# Altium footprint library PcbLibResistors.PcbLib: 11 footprints
Each footprint in its own frame and in the unit in brackets; x right, y up, seen from the top. Pads: shape width x height; smd on the part's side, far side on the other; paste and mask are expansions set on the pad; w line width, h text height; cw(c..) or ccw(c..) is an arc to the next point about the centre after c.
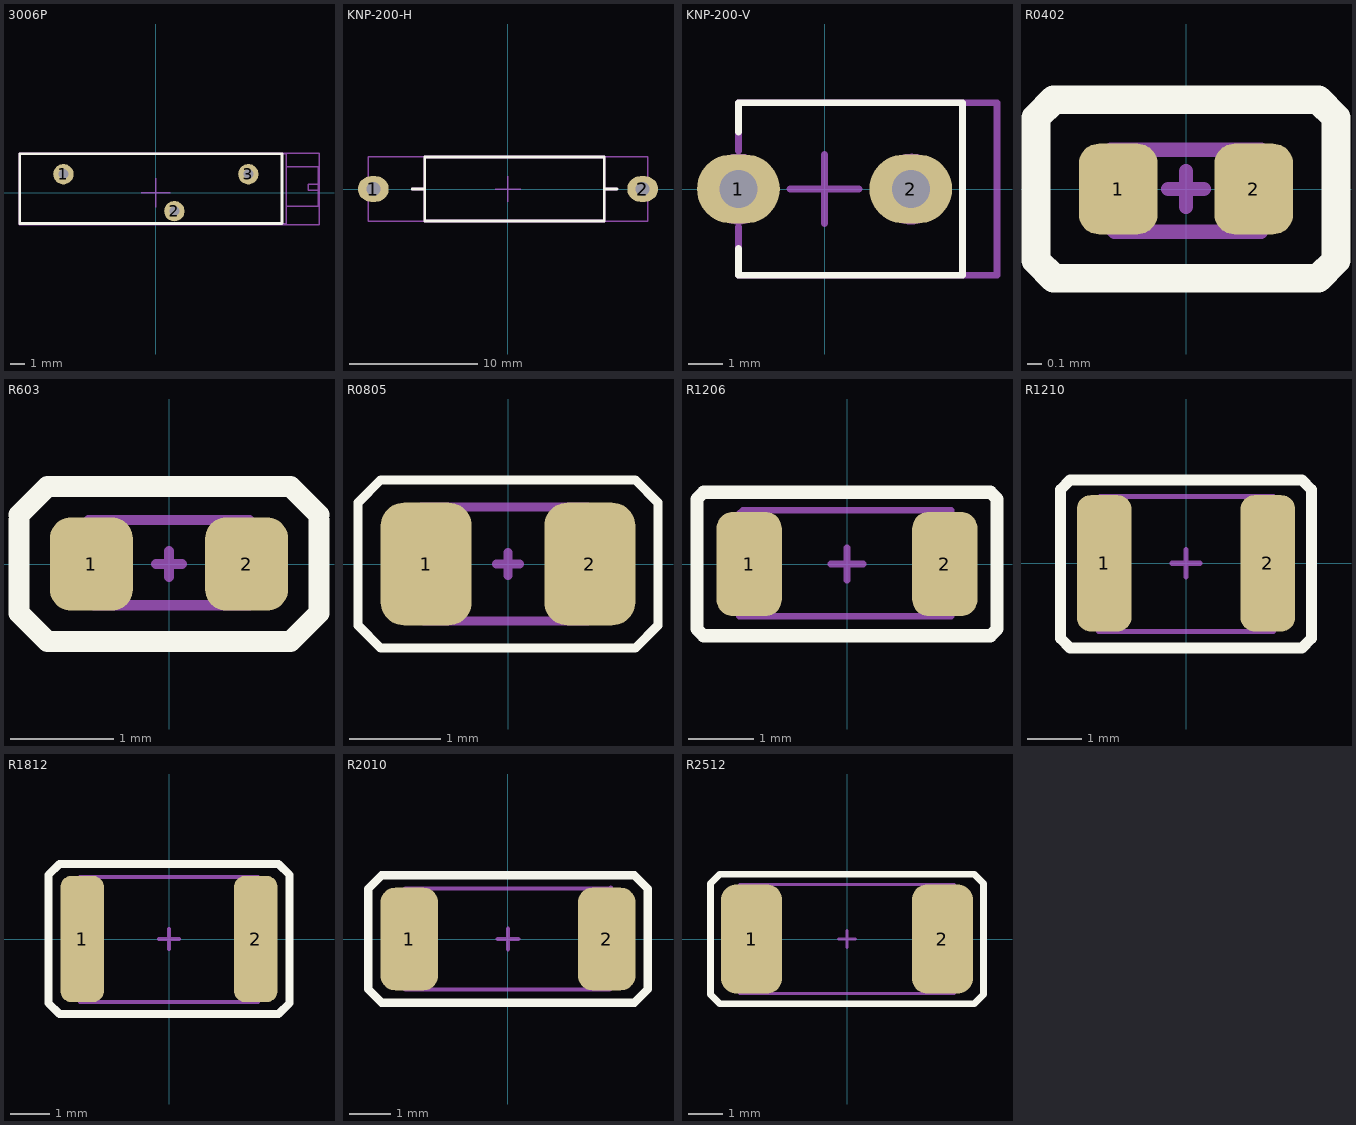
[diagram p0: the footprints below, top view; thin cyan lines are the x and y axes]

## 3006P [mm]
pads (3):
  round 1.4 hole 0.7: 1(-6.35,1.27) 2(1.27,-1.27) 3(6.35,1.27)
Top Overlay:
  lines w0.2: -9.35,-2.13 8.65,-2.13 8.65,2.67 -9.25,2.67 -9.35,2.67 -9.35,-2.13
TopAssy:
  circle w0.1: c-6.35,1.27 r0.3
  circle w0.1: c1.27,-1.27 r0.3
  circle w0.1: c6.35,1.27 r0.3
  lines w0.1: 8.95,-0.93 11.15,-0.93 11.15,1.77 8.95,1.77 ; 11.15,0.17 10.45,0.17 10.45,0.57 11.15,0.57 ; -9.35,-2.13 8.95,-2.13 8.95,2.67 -9.35,2.67 -9.35,-2.13
Inside:
  lines w0.1: -1,0 0,0 ; 0,-1 0,0 ; 0,1 0,0 ; 1,0 0,0 ; -9.4,-2.2 11.2,-2.2 11.2,2.7 -9.3,2.7 -9.4,2.7 -9.4,-2.2
3D body "User Library-bourns_3006p.step": height 6.68, standoff -4.88, extent -9.398,-2.159 11.176,2.667

## KNP-200-H [mm] "15mmx5mmx5mm hole 1mm"
height 5
pads (2):
  oval 2.4x2 hole 1.1: 1(-10.512,0) 2(10.513,0)
Top Overlay:
  lines w0.2: 8.512,0 7.512,0 ; -6.488,0 -7.487,0 -6.488,0 ; -6.488,0 -6.488,-2.5 7.512,-2.5 7.512,0 ; -6.488,0 -6.488,2.5 7.512,2.5 7.512,0
TopAssy:
  lines w0.2: 8.512,0 7.512,0 ; -6.488,0 -7.487,0 -6.488,0 ; -6.488,0 -6.488,-2.5 7.512,-2.5 7.512,0 ; -6.488,0 -6.488,2.5 7.512,2.5 7.512,0
Inside:
  lines w0.1: -1,0 1,0 ; 0,-1 0,1 ; -10.9,-2.5 -10.9,2.5 10.9,2.5 10.9,-2.5 -10.9,-2.5
3D body "KNP-200-H.STEP": height 5.3, standoff -2.2, extent -10.912,-2.5 10.888,2.5

## KNP-200-V [mm] "5mmx5mmx21mm hole 1mm"
height 21
pads (2):
  oval 2.4x2 hole 1.1: 1(-2.5,0) 2(2.5,0)
Top Overlay:
  lines w0.2: -2.5,-1.725 -2.5,-2.5 4,-2.5 4,2.5 -2.5,2.5 -2.5,1.65
TopAssy:
  lines w0.254: -1.606,-0.099 cw(c-2.5,0) -1.6,0 ; 3.394,-0.099 cw(c2.5,0) 3.4,0
Inside:
  lines w0.2: -2.5,-1.1 -2.5,-2.5 5,-2.5 5,2.5 4,2.5 -2.5,2.5 -2.5,1.1 ; -1,0 1,0 ; 0,-1 0,1
3D body "KNP-200-V.STEP": height 19.4, standoff -3, extent -2.9,-2.5 5,2.5

## R0402 [mm]
pads (2):
  rrect50% 0.55x0.635 smd: 1(-0.475,0) 2(0.475,0)
Top Overlay:
  lines w0.2: -1.05,-0.5 -0.925,-0.625 -0.775,-0.625 0.5,-0.625 0.775,-0.625 0.925,-0.625 1.05,-0.5 1.05,0.5 0.925,0.625 0.775,0.625 0.55,0.625 -0.775,0.625 -0.925,0.625 -1.05,0.5 -1.05,-0.5
TopAssy:
  lines w0.1: -0.525,-0.275 -0.5,-0.3 0.525,-0.3 0.525,0.275 -0.525,0.275 -0.525,-0.275
Inside:
  lines w0.1: -0.125,0 0.125,0 ; 0,-0.125 0,0.125
3D body "User Library-0402R.step": height 0.34, standoff 0, extent -0.545,-0.3 0.495,0.3

## R603 [mm]
pads (2):
  rrect50% 0.8x0.9 smd: 1(-0.75,0) 2(0.75,0)
Top Overlay:
  lines w0.2: -1.45,0.425 -1.45,-0.425 -1.45,-0.475 -1.175,-0.75 -0.75,-0.75 1.175,-0.75 1.45,-0.475 1.45,-0.425 1.45,0.425 ; -1.45,0.475 -1.175,0.75 0.75,0.75 1.175,0.75 1.45,0.475
TopAssy:
  lines w0.1: -0.775,-0.35 -0.725,-0.4 0.775,-0.4 0.775,0.425 -0.775,0.425 -0.775,-0.35
Inside:
  lines w0.1: -0.125,0 0.125,0 ; 0,-0.125 0,0.125
3D body "User Library-RES_1609-0603.step": height 0.56, standoff 0, extent -0.85,-0.4 0.85,0.4

## R0805 [mm]
pads (2):
  rrect50% 1x1.35 smd: 1(-0.9,0) 2(0.9,0)
Top Overlay:
  lines w0.1: 1.375,-0.925 -1.4,-0.925 -1.65,-0.675 -1.65,0.675 -1.4,0.925 1.375,0.925 ; 1.4,-0.925 1.65,-0.675 1.65,0.675 1.4,0.925
TopAssy:
  lines w0.1: -0.95,-0.6 -0.95,0.625 0.875,0.625 0.875,-0.625 -0.925,-0.625 -0.95,-0.6
Inside:
  lines w0.1: -0.125,0 0.125,0 ; 0,-0.125 0,0.125
3D body "R-0805.STEP": height 0.6, standoff 0, extent -1,-0.625 1,0.625

## R1206 [mm]
pads (2):
  rrect50% 1x1.6 smd: 1(-1.5,0) 2(1.5,0)
Top Overlay:
  lines w0.2: -2.3,-1 -2.3,1 -2.2,1.1 -2,1.1 1.5,1.1 2,1.1 2.2,1.1 2.3,1 2.3,-1 2.2,-1.1 2,-1.1 1.5,-1.1 -2,-1.1 -2.2,-1.1 -2.3,-1
TopAssy:
  lines w0.1: -1.65,-0.8 1.6,-0.8 1.6,0.825 -1.6,0.825 -1.65,0.775 -1.65,-0.8
Inside:
  lines w0.1: -0.25,0 0.25,0 ; 0,-0.25 0,0.25
3D body "R-1206 (2).STEP": height 0.6, standoff 0, extent -1.6,-0.8 1.6,0.8

## R1210 [mm]
pads (2):
  rrect50% 1x2.5 smd: 1(-1.5,0) 2(1.5,0)
Top Overlay:
  lines w0.2: -2.3,-1.375 -2.125,-1.55 -1.5,-1.55 2.125,-1.55 2.3,-1.375 2.3,-1.2 2.3,1.35 2.125,1.525 1.5,1.525 -2.125,1.525 -2.3,1.35 -2.3,-1.2 -2.3,-1.375
TopAssy:
  lines w0.1: -1.6,-1.25 1.6,-1.25 1.6,1.225 -1.575,1.225 -1.575,-1.225 -1.6,-1.25
Inside:
  lines w0.1: -0.25,0 0.25,0 ; 0,-0.25 0,0.25
3D body "SMD R-1210.STEP": height 0.6, standoff 0, extent -1.6,-1.25 1.6,1.25

## R1812 [mm]
pads (2):
  rrect50% 1.1x3.2 smd: 1(-2.2,0) 2(2.2,0)
Top Overlay:
  lines w0.2: -3.05,1.575 -3.05,-1.575 -3.05,-1.625 -2.775,-1.9 -2.125,-1.9 2.775,-1.9 3.05,-1.625 3.05,-1.575 3.05,1.575 ; -3.05,1.625 -2.775,1.9 2.125,1.9 2.775,1.9 3.05,1.625
TopAssy:
  lines w0.1: -2.25,-1.6 -2.25,1.575 -2.225,1.575 2.25,1.575 2.25,-1.6 -2.25,-1.6
Inside:
  lines w0.1: -0.25,0 0.25,0 ; 0,-0.25 0,0.25
3D body "SMD R-1812.STEP": height 0.6, standoff 0, extent -2.25,-1.6 2.25,1.6

## R2010 [mm]
pads (2):
  rrect50% 1.4x2.5 smd: 1(-2.4,0) 2(2.4,0)
Top Overlay:
  lines w0.2: -3.075,-1.55 -3.4,-1.225 -3.4,1.225 -3.075,1.55 -2.375,1.55 3.075,1.55 3.4,1.225 3.4,-1.225 3.075,-1.55 ; -3.075,-1.55 -3.075,-1.55 ; -3.075,-1.55 -2.375,-1.55 3.075,-1.55 ; 3.075,-1.55 3.075,-1.55
TopAssy:
  lines w0.1: -0.25,0 0.25,0 ; 0,-0.25 0,0.25 ; -2.5,-1.225 2.475,-1.225 2.5,-1.2 2.5,1.25 2.475,1.225 -2.5,1.225 -2.5,-1.225
3D body "SMD R-2010.STEP": height 0.62, standoff 0, extent -2.502,-1.244 2.502,1.246

## R2512 [mm]
pads (2):
  rrect50% 1.8x3.2 smd: 1(-2.8,0) 2(2.8,0)
Top Overlay:
  lines w0.2: -4,-1.625 -4,1.625 -3.725,1.9 -3.45,1.9 2.75,1.9 3.45,1.9 3.725,1.9 4,1.625 4,-1.625 3.725,-1.9 3.45,-1.9 -2.75,-1.9 -3.45,-1.9 -3.725,-1.9 -4,-1.625
TopAssy:
  lines w0.1: -3.15,-1.6 3.15,-1.6 3.15,1.6 -3.15,1.6 -3.15,-1.6
Inside:
  lines w0.1: -0.25,0 0,0 ; 0,-0.25 0,0 ; 0,0.25 0,0 ; 0.25,0 0,0
3D body "SMD R-2512.STEP": height 0.62, standoff 0, extent -3.159,-1.6 3.16,1.6